# Altium schematic symbol library LMR38020SDDAR.SchLib: 1 symbol
Pins are listed as number, name and electrical type; pins without a type are passive.

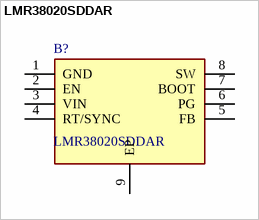
[diagram p0: symbol LMR38020SDDAR]

## LMR38020SDDAR
designator B?
Switching Voltage Regulators SIMPLE SWITCHER power converter 4.2-V to 80-V, 2-A, synchronous buck with 40-uA IQ; Manufacturer_Name: Texas Instruments; Geometry.Height: 1.7mm; Mouser Part Number: 595-LMR38020SDDAR; Mouser Price/Stock: https://www.mouser.co.uk/ProductDetail/Texas-Instruments/LMR38020SDDAR?qs=Rp5uXu7WBW%252BVq2PF2vRuwg%3D%3D; Manufacturer_Part_Number: LMR38020SDDAR; Datasheet Link: https://www.ti.com/lit/ds/symlink/lmr38020.pdf?ts=1639464026979&ref_url=https%253A%252F%252Fwww.ti.com%252Fproduct%252FLMR38020
footprint SOIC127P600X170-9N
pins: 1 GND, 2 EN, 3 VIN, 4 RT/SYNC, 5 FB, 6 PG, 7 BOOT, 8 SW, 9 EP